# Altium integrated library Linear Technology PMIC-Switching Reg LTC1174-LTC3901.IntLib: 2647 symbols (part 138 of 310)
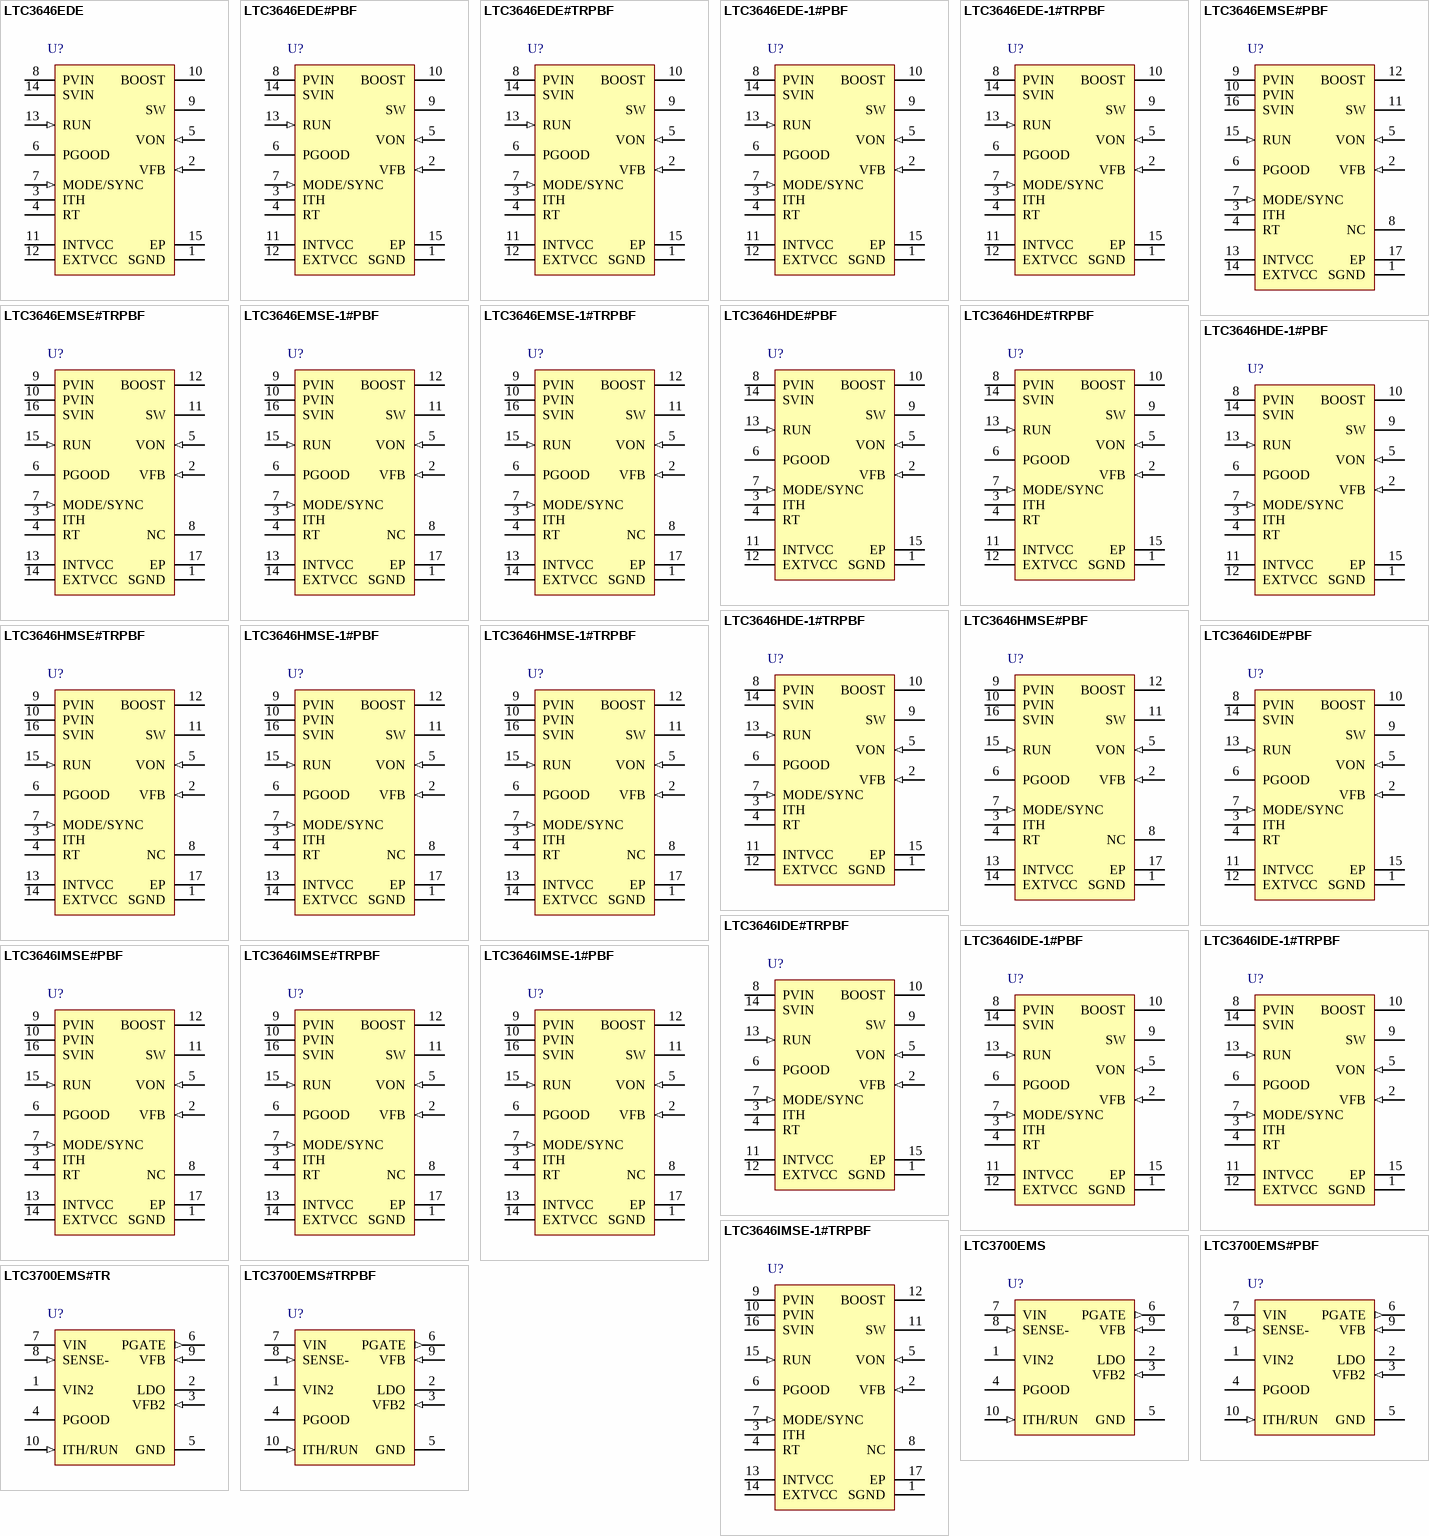
[diagram p194: symbols LTC3646EDE to LTC3700EMS#TRPBF]

## LTC3646HDE-1#TRPBF
designator U?
1 A Synchronous Step-Down Converter, 14-pin SON (DE-14), -40 to 150 degC, Pb-Free, Tape and Reel; Manufacturer: Linear Technology; PartNumber: LTC3646HDE-1#TRPBF; Number of Outputs: 1; PackageReference: DE-14; PackageDescription: 14-Pin Plastic DFN, Body 4 x 3 mm, Pitch 0.5 mm; Supplier 1: Digi-Key; Supplier Part Number 1: LTC3646HDE-1#TRPBF-ND; RoHS: TRUE; Code_JEDEC: MO-229
footprint LT-DE-14_V (SON, 14-Leads, Body 4x3mm, Pitch 0.5mm, Thermal Pad 3.3x1.7mm)
pins: 1 SGND (power) "Analog Ground Pin. This pin should have a low noise connection to the reference ground.", 2 VFB (in) "Output Voltage Feedback Pin. Input to the error amplifier that compares the feedback voltage with the internal 0.6 V reference. Connect this pin to a resistor divider network to program the desired output voltage.", 3 ITH "Error Amplifier Output and Switching Regulator Compensation Point. Connect this pin to appro-priate external components to compensate the regulator loop frequency response. Connect this pin to INTVCC to use the default (See Datasheet)", 4 RT "Oscillator Frequency Program Pin. Connect an external resistor between 450k and 30k from this pin to SGND to program the switching frequency from 200kHz to 3.0MHz. When RT is connected to INTVCC, the switching frequency will (See Datasheet)", 5 VON (in) "On-Time Voltage Input Pin. This pin provides information about the output voltage (VOUT) to the on-time control loop. Connect this pin to the regulated output to make the on-time proportional to the output voltage.", 6 PGOOD (hiz) "Power Good Output Pin. PGOOD is pulled to ground when the voltage at the VFB pin is not within 7.5% (typical) of the internal 0.6V reference. PGOOD becomes high impedance once the voltage at the VFB pin returns to within 5% (See Datasheet)", 7 MODE/SYNC (in) "Mode Selection and External Clock Input Pin. This pin forces the LTC3646 into forced continuous operation when tied to ground, and high efficiency Burst Mode operation when tied to INTVCC. When driven with an external clock, (See Datasheet)", 8 PVIN (power) "Supply Pin for the Power Switch. This pin connects directly to top switch. Closely decouple this pin to PGND with a 10uF or greater, low ESR capacitor.", 9 SW (power) "Switch Node Output Pin. Connect this pin to the switch side of the external inductor and boost capacitor.", 10 BOOST "Boosted Supply Pin. A boosted voltage is generated at this pin by connecting a capacitor between this pin and the SW pin. The normal operation voltage swing of this pin ranges from INTVCC to PVIN+ INTVCC. When necessary, (See Datasheet)", 11 INTVCC (power) "Internal 5.0V Regulator Output Pin. This pin should be decoupled to PGND with a 4.7uF or greater low ESR capacitor. When necessary, connect the anode of an external boost diode to this pin. The internal regulator is disabled (See Datasheet)", 12 EXTVCC (power) "Use this input pin to power the chip’s low voltage control circuitry if a high efficiency supply between 4.5V and 6.0V is available. Otherwise, connect this pin to SGND. See the Applications Information section for furthe(See Datasheet)", 13 RUN (in) "Regulator Enable Pin. Enables chip operation by applying a voltage greater than VRUN.", 14 SVIN (power) "Power Supply Input for Internal Circuitry. Closely decouple this pin to SGND with a greater than 1uF low ESR capacitor. SVIN pin voltage should equal PVIN in order to correctly calculate on the on time and maintain constant (See Datasheet)", 15 EP (power) "Power Path Ground Pin. The exposed pad must be well soldered to the PCB to provide a low impedance electrical connection to ground and rated thermal performance."

## LTC3646HMSE#PBF
designator U?
1 A Synchronous Step-Down Converter, 16-pin SOP (MSE-16-EDP), -40 to 150 degC, Pb-Free; Manufacturer: Linear Technology; PartNumber: LTC3646HMSE#PBF; Number of Outputs: 1; PackageReference: MSE-16; PackageDescription: 16-Pin Plastic MSOP, Exposed Die Pad, Body 4.039 x 3 mm, Pitch 0.5 mm; Supplier 1: Digi-Key; Supplier Part Number 1: LTC3646HMSE#PBF-ND; RoHS: TRUE
footprint LT-MSE-16-EDP_N (SOP, 16-Leads, Body 4.1x3.1mm, Pitch 0.5mm, Thermal Pad 2.95x1.76mm, IPC Medium Density)
footprint LT-MSE-16-EDP_L (SOP, 16-Leads, Body 4.1x3.1mm, Pitch 0.5mm, Thermal Pad 2.95x1.76mm, IPC High Density)
footprint LT-MSE-16-EDP_M (SOP, 16-Leads, Body 4.1x3.1mm, Pitch 0.5mm, Thermal Pad 2.95x1.76mm, IPC Low Density)
pins: 1 SGND (power) "Analog Ground Pin. This pin should have a low noise connection to the reference ground.", 2 VFB (in) "Output Voltage Feedback Pin. Input to the error amplifierthat compares the feedback voltage with the internal 0.6V reference. Connect this pin to a resistor divider network to program the desired output voltage.", 3 ITH "Error Amplifier Output and Switching Regulator Compensation Point. Connect this pin to appropriate external components to compensate the regulator loop frequency response. Connect this pin to INTVCC to  use the default (See Datasheet)", 4 RT "Oscillator Frequency Program Pin. Connect an external resistor between 450k and 30k from this pin to SGND to program the switching frequency from 200kHz to 3.0MHz. When RT is connected to INTVCC, the  switching frequency (See Datasheet)", 5 VON (in) "On-Time Voltage Input Pin. This pin provides information about the output voltage (VOUT) to the on-time control loop. Connect this pin to the regulated output to make the on-time proportional to the output voltage.", 6 PGOOD (hiz) "Power Good Output Pin. PGOOD is pulled to ground when the voltage at the VFB pin is not within 7.5% (typical) ofthe internal 0.6V reference. PGOOD becomes high impedance once the voltage at the VFB pin  returns to within 5% (See Datasheet)", 7 MODE/SYNC (in) "Mode Selection and External Clock Input Pin. This pin forces the LTC3646 into forced continuous operation when tied to ground, and high efficiency Burst Mode operation when tied to INTVCC. When driven with an external clock, (See Datasheet)", 8 NC "No Connection", 9 PVIN (power) "Supply Pin for the Power Switch.  This pin connects directly to top switch. Closely decouple  this pin to PGND with a 10uF or greater, low ESR capacitor.", 10 PVIN (power) "Supply Pin for the Power Switch.  This pin connects directly to top switch. Closely decouple  this pin to PGND with a 10uF or greater, low ESR capacitor.", 11 SW (power) "Switch Node Output Pin. Connect this pin to the switch side of the external inductor and boost  capacitor.", 12 BOOST "Boosted Supply Pin. A boosted voltage is generated at this pin by connecting a capacitor between this pin and the SW pin. The normal operation voltage  swing of this pin ranges from INTVCC to PVIN + INTVCC. When necessary, (See Datasheet)", 13 INTVCC (power) "Internal 5.0V Regulator Output Pin. This pin should be decoupled to PGND with a 4.7uF or greater low ESR capacitor. When necessary, connect the anode of an external boost diode to this pin. The internal regulator is disabled (See Datasheet)", 14 EXTVCC (power) "Use this input pin to power the chip’s low voltage control circuitry if a high efficiency supply between 4.5V and 6.0V is available. Otherwise, connect this pin to SGND. See the Applications Information section for furthe(See Datasheet)", 15 RUN (in) "Regulator Enable Pin. Enables chip operation by applying a voltage greater than VRUN.", 16 SVIN (power) "Power Supply Input for Internal Circuitry. Closely decouple this pin to SGND with a greater than 1uF low ESR capacitor. SVIN pin voltage should equal PVIN in order to correctly calculate on the on time and maintain constant (See Datasheet)", 17 EP (power) "Power Path Ground Pin. The exposed pad must be well soldered to the PCB to provide a low impedance electrical connection to ground and rated thermal performance."

## LTC3646HMSE#TRPBF
designator U?
1 A Synchronous Step-Down Converter, 16-pin SOP (MSE-16-EDP), -40 to 150 degC, Pb-Free, Tape and Reel; Manufacturer: Linear Technology; PartNumber: LTC3646HMSE#TRPBF; Number of Outputs: 1; PackageReference: MSE-16; PackageDescription: 16-Pin Plastic MSOP, Exposed Die Pad, Body 4.039 x 3 mm, Pitch 0.5 mm; Supplier 1: Digi-Key; Supplier Part Number 1: LTC3646HMSE#TRPBF-ND; RoHS: TRUE
footprint LT-MSE-16-EDP_N (SOP, 16-Leads, Body 4.1x3.1mm, Pitch 0.5mm, Thermal Pad 2.95x1.76mm, IPC Medium Density)
footprint LT-MSE-16-EDP_L (SOP, 16-Leads, Body 4.1x3.1mm, Pitch 0.5mm, Thermal Pad 2.95x1.76mm, IPC High Density)
footprint LT-MSE-16-EDP_M (SOP, 16-Leads, Body 4.1x3.1mm, Pitch 0.5mm, Thermal Pad 2.95x1.76mm, IPC Low Density)
pins: 1 SGND (power) "Analog Ground Pin. This pin should have a low noise connection to the reference ground.", 2 VFB (in) "Output Voltage Feedback Pin. Input to the error amplifierthat compares the feedback voltage with the internal 0.6V reference. Connect this pin to a resistor divider network to program the desired output voltage.", 3 ITH "Error Amplifier Output and Switching Regulator Compensation Point. Connect this pin to appropriate external components to compensate the regulator loop frequency response. Connect this pin to INTVCC to  use the default (See Datasheet)", 4 RT "Oscillator Frequency Program Pin. Connect an external resistor between 450k and 30k from this pin to SGND to program the switching frequency from 200kHz to 3.0MHz. When RT is connected to INTVCC, the  switching frequency (See Datasheet)", 5 VON (in) "On-Time Voltage Input Pin. This pin provides information about the output voltage (VOUT) to the on-time control loop. Connect this pin to the regulated output to make the on-time proportional to the output voltage.", 6 PGOOD (hiz) "Power Good Output Pin. PGOOD is pulled to ground when the voltage at the VFB pin is not within 7.5% (typical) ofthe internal 0.6V reference. PGOOD becomes high impedance once the voltage at the VFB pin  returns to within 5% (See Datasheet)", 7 MODE/SYNC (in) "Mode Selection and External Clock Input Pin. This pin forces the LTC3646 into forced continuous operation when tied to ground, and high efficiency Burst Mode operation when tied to INTVCC. When driven with an external clock, (See Datasheet)", 8 NC "No Connection", 9 PVIN (power) "Supply Pin for the Power Switch.  This pin connects directly to top switch. Closely decouple  this pin to PGND with a 10uF or greater, low ESR capacitor.", 10 PVIN (power) "Supply Pin for the Power Switch.  This pin connects directly to top switch. Closely decouple  this pin to PGND with a 10uF or greater, low ESR capacitor.", 11 SW (power) "Switch Node Output Pin. Connect this pin to the switch side of the external inductor and boost  capacitor.", 12 BOOST "Boosted Supply Pin. A boosted voltage is generated at this pin by connecting a capacitor between this pin and the SW pin. The normal operation voltage  swing of this pin ranges from INTVCC to PVIN + INTVCC. When necessary, (See Datasheet)", 13 INTVCC (power) "Internal 5.0V Regulator Output Pin. This pin should be decoupled to PGND with a 4.7uF or greater low ESR capacitor. When necessary, connect the anode of an external boost diode to this pin. The internal regulator is disabled (See Datasheet)", 14 EXTVCC (power) "Use this input pin to power the chip’s low voltage control circuitry if a high efficiency supply between 4.5V and 6.0V is available. Otherwise, connect this pin to SGND. See the Applications Information section for furthe(See Datasheet)", 15 RUN (in) "Regulator Enable Pin. Enables chip operation by applying a voltage greater than VRUN.", 16 SVIN (power) "Power Supply Input for Internal Circuitry. Closely decouple this pin to SGND with a greater than 1uF low ESR capacitor. SVIN pin voltage should equal PVIN in order to correctly calculate on the on time and maintain constant (See Datasheet)", 17 EP (power) "Power Path Ground Pin. The exposed pad must be well soldered to the PCB to provide a low impedance electrical connection to ground and rated thermal performance."

## LTC3646HMSE-1#PBF
designator U?
1 A Synchronous Step-Down Converter, 16-pin SOP (MSE-16-EDP), -40 to 150 degC, Pb-Free; Manufacturer: Linear Technology; PartNumber: LTC3646HMSE-1#PBF; Number of Outputs: 1; PackageReference: MSE-16; PackageDescription: 16-Pin Plastic MSOP, Exposed Die Pad, Body 4.039 x 3 mm, Pitch 0.5 mm; Supplier 1: Digi-Key; Supplier Part Number 1: LTC3646HMSE-1#PBF-ND; RoHS: TRUE
footprint LT-MSE-16-EDP_N (SOP, 16-Leads, Body 4.1x3.1mm, Pitch 0.5mm, Thermal Pad 2.95x1.76mm, IPC Medium Density)
footprint LT-MSE-16-EDP_L (SOP, 16-Leads, Body 4.1x3.1mm, Pitch 0.5mm, Thermal Pad 2.95x1.76mm, IPC High Density)
footprint LT-MSE-16-EDP_M (SOP, 16-Leads, Body 4.1x3.1mm, Pitch 0.5mm, Thermal Pad 2.95x1.76mm, IPC Low Density)
pins: 1 SGND (power) "Analog Ground Pin. This pin should have a low noise connection to the reference ground.", 2 VFB (in) "Output Voltage Feedback Pin. Input to the error amplifierthat compares the feedback voltage with the internal 0.6V reference. Connect this pin to a resistor divider network to program the desired output voltage.", 3 ITH "Error Amplifier Output and Switching Regulator Compensation Point. Connect this pin to appropriate external components to compensate the regulator loop frequency response. Connect this pin to INTVCC to  use the default (See Datasheet)", 4 RT "Oscillator Frequency Program Pin. Connect an external resistor between 450k and 30k from this pin to SGND to program the switching frequency from 200kHz to 3.0MHz. When RT is connected to INTVCC, the  switching frequency (See Datasheet)", 5 VON (in) "On-Time Voltage Input Pin. This pin provides information about the output voltage (VOUT) to the on-time control loop. Connect this pin to the regulated output to make the on-time proportional to the output voltage.", 6 PGOOD (hiz) "Power Good Output Pin. PGOOD is pulled to ground when the voltage at the VFB pin is not within 7.5% (typical) ofthe internal 0.6V reference. PGOOD becomes high impedance once the voltage at the VFB pin  returns to within 5% (See Datasheet)", 7 MODE/SYNC (in) "Mode Selection and External Clock Input Pin. This pin forces the LTC3646 into forced continuous operation when tied to ground, and high efficiency Burst Mode operation when tied to INTVCC. When driven with an external clock, (See Datasheet)", 8 NC "No Connection", 9 PVIN (power) "Supply Pin for the Power Switch.  This pin connects directly to top switch. Closely decouple  this pin to PGND with a 10uF or greater, low ESR capacitor.", 10 PVIN (power) "Supply Pin for the Power Switch.  This pin connects directly to top switch. Closely decouple  this pin to PGND with a 10uF or greater, low ESR capacitor.", 11 SW (power) "Switch Node Output Pin. Connect this pin to the switch side of the external inductor and boost  capacitor.", 12 BOOST "Boosted Supply Pin. A boosted voltage is generated at this pin by connecting a capacitor between this pin and the SW pin. The normal operation voltage  swing of this pin ranges from INTVCC to PVIN + INTVCC. When necessary, (See Datasheet)", 13 INTVCC (power) "Internal 5.0V Regulator Output Pin. This pin should be decoupled to PGND with a 4.7uF or greater low ESR capacitor. When necessary, connect the anode of an external boost diode to this pin. The internal regulator is disabled (See Datasheet)", 14 EXTVCC (power) "Use this input pin to power the chip’s low voltage control circuitry if a high efficiency supply between 4.5V and 6.0V is available. Otherwise, connect this pin to SGND. See the Applications Information section for furthe(See Datasheet)", 15 RUN (in) "Regulator Enable Pin. Enables chip operation by applying a voltage greater than VRUN.", 16 SVIN (power) "Power Supply Input for Internal Circuitry. Closely decouple this pin to SGND with a greater than 1uF low ESR capacitor. SVIN pin voltage should equal PVIN in order to correctly calculate on the on time and maintain constant (See Datasheet)", 17 EP (power) "Power Path Ground Pin. The exposed pad must be well soldered to the PCB to provide a low impedance electrical connection to ground and rated thermal performance."

## LTC3646HMSE-1#TRPBF
designator U?
1 A Synchronous Step-Down Converter, 16-pin SOP (MSE-16-EDP), -40 to 150 degC, Pb-Free, Tape and Reel; Manufacturer: Linear Technology; PartNumber: LTC3646HMSE-1#TRPBF; Number of Outputs: 1; PackageReference: MSE-16; PackageDescription: 16-Pin Plastic MSOP, Exposed Die Pad, Body 4.039 x 3 mm, Pitch 0.5 mm; Supplier 1: Digi-Key; Supplier Part Number 1: LTC3646HMSE-1#TRPBF-ND; RoHS: TRUE
footprint LT-MSE-16-EDP_N (SOP, 16-Leads, Body 4.1x3.1mm, Pitch 0.5mm, Thermal Pad 2.95x1.76mm, IPC Medium Density)
footprint LT-MSE-16-EDP_L (SOP, 16-Leads, Body 4.1x3.1mm, Pitch 0.5mm, Thermal Pad 2.95x1.76mm, IPC High Density)
footprint LT-MSE-16-EDP_M (SOP, 16-Leads, Body 4.1x3.1mm, Pitch 0.5mm, Thermal Pad 2.95x1.76mm, IPC Low Density)
pins: 1 SGND (power) "Analog Ground Pin. This pin should have a low noise connection to the reference ground.", 2 VFB (in) "Output Voltage Feedback Pin. Input to the error amplifierthat compares the feedback voltage with the internal 0.6V reference. Connect this pin to a resistor divider network to program the desired output voltage.", 3 ITH "Error Amplifier Output and Switching Regulator Compensation Point. Connect this pin to appropriate external components to compensate the regulator loop frequency response. Connect this pin to INTVCC to  use the default (See Datasheet)", 4 RT "Oscillator Frequency Program Pin. Connect an external resistor between 450k and 30k from this pin to SGND to program the switching frequency from 200kHz to 3.0MHz. When RT is connected to INTVCC, the  switching frequency (See Datasheet)", 5 VON (in) "On-Time Voltage Input Pin. This pin provides information about the output voltage (VOUT) to the on-time control loop. Connect this pin to the regulated output to make the on-time proportional to the output voltage.", 6 PGOOD (hiz) "Power Good Output Pin. PGOOD is pulled to ground when the voltage at the VFB pin is not within 7.5% (typical) ofthe internal 0.6V reference. PGOOD becomes high impedance once the voltage at the VFB pin  returns to within 5% (See Datasheet)", 7 MODE/SYNC (in) "Mode Selection and External Clock Input Pin. This pin forces the LTC3646 into forced continuous operation when tied to ground, and high efficiency Burst Mode operation when tied to INTVCC. When driven with an external clock, (See Datasheet)", 8 NC "No Connection", 9 PVIN (power) "Supply Pin for the Power Switch.  This pin connects directly to top switch. Closely decouple  this pin to PGND with a 10uF or greater, low ESR capacitor.", 10 PVIN (power) "Supply Pin for the Power Switch.  This pin connects directly to top switch. Closely decouple  this pin to PGND with a 10uF or greater, low ESR capacitor.", 11 SW (power) "Switch Node Output Pin. Connect this pin to the switch side of the external inductor and boost  capacitor.", 12 BOOST "Boosted Supply Pin. A boosted voltage is generated at this pin by connecting a capacitor between this pin and the SW pin. The normal operation voltage  swing of this pin ranges from INTVCC to PVIN + INTVCC. When necessary, (See Datasheet)", 13 INTVCC (power) "Internal 5.0V Regulator Output Pin. This pin should be decoupled to PGND with a 4.7uF or greater low ESR capacitor. When necessary, connect the anode of an external boost diode to this pin. The internal regulator is disabled (See Datasheet)", 14 EXTVCC (power) "Use this input pin to power the chip’s low voltage control circuitry if a high efficiency supply between 4.5V and 6.0V is available. Otherwise, connect this pin to SGND. See the Applications Information section for furthe(See Datasheet)", 15 RUN (in) "Regulator Enable Pin. Enables chip operation by applying a voltage greater than VRUN.", 16 SVIN (power) "Power Supply Input for Internal Circuitry. Closely decouple this pin to SGND with a greater than 1uF low ESR capacitor. SVIN pin voltage should equal PVIN in order to correctly calculate on the on time and maintain constant (See Datasheet)", 17 EP (power) "Power Path Ground Pin. The exposed pad must be well soldered to the PCB to provide a low impedance electrical connection to ground and rated thermal performance."

## LTC3646IDE#PBF
designator U?
1 A Synchronous Step-Down Converter, 14-pin SON (DE-14), -40 to 125 degC, Pb-Free; Manufacturer: Linear Technology; PartNumber: LTC3646IDE#PBF; Number of Outputs: 1; PackageReference: DE-14; PackageDescription: 14-Pin Plastic DFN, Body 4 x 3 mm, Pitch 0.5 mm; Supplier 1: Digi-Key; Supplier Part Number 1: LTC3646IDE#PBF-ND; RoHS: TRUE; Code_JEDEC: MO-229
footprint LT-DE-14_V (SON, 14-Leads, Body 4x3mm, Pitch 0.5mm, Thermal Pad 3.3x1.7mm)
pins: 1 SGND (power) "Analog Ground Pin. This pin should have a low noise connection to the reference ground.", 2 VFB (in) "Output Voltage Feedback Pin. Input to the error amplifier that compares the feedback voltage with the internal 0.6 V reference. Connect this pin to a resistor divider network to program the desired output voltage.", 3 ITH "Error Amplifier Output and Switching Regulator Compensation Point. Connect this pin to appro-priate external components to compensate the regulator loop frequency response. Connect this pin to INTVCC to use the default (See Datasheet)", 4 RT "Oscillator Frequency Program Pin. Connect an external resistor between 450k and 30k from this pin to SGND to program the switching frequency from 200kHz to 3.0MHz. When RT is connected to INTVCC, the switching frequency will (See Datasheet)", 5 VON (in) "On-Time Voltage Input Pin. This pin provides information about the output voltage (VOUT) to the on-time control loop. Connect this pin to the regulated output to make the on-time proportional to the output voltage.", 6 PGOOD (hiz) "Power Good Output Pin. PGOOD is pulled to ground when the voltage at the VFB pin is not within 7.5% (typical) of the internal 0.6V reference. PGOOD becomes high impedance once the voltage at the VFB pin returns to within 5% (See Datasheet)", 7 MODE/SYNC (in) "Mode Selection and External Clock Input Pin. This pin forces the LTC3646 into forced continuous operation when tied to ground, and high efficiency Burst Mode operation when tied to INTVCC. When driven with an external clock, (See Datasheet)", 8 PVIN (power) "Supply Pin for the Power Switch. This pin connects directly to top switch. Closely decouple this pin to PGND with a 10uF or greater, low ESR capacitor.", 9 SW (power) "Switch Node Output Pin. Connect this pin to the switch side of the external inductor and boost capacitor.", 10 BOOST "Boosted Supply Pin. A boosted voltage is generated at this pin by connecting a capacitor between this pin and the SW pin. The normal operation voltage swing of this pin ranges from INTVCC to PVIN+ INTVCC. When necessary, (See Datasheet)", 11 INTVCC (power) "Internal 5.0V Regulator Output Pin. This pin should be decoupled to PGND with a 4.7uF or greater low ESR capacitor. When necessary, connect the anode of an external boost diode to this pin. The internal regulator is disabled (See Datasheet)", 12 EXTVCC (power) "Use this input pin to power the chip’s low voltage control circuitry if a high efficiency supply between 4.5V and 6.0V is available. Otherwise, connect this pin to SGND. See the Applications Information section for furthe(See Datasheet)", 13 RUN (in) "Regulator Enable Pin. Enables chip operation by applying a voltage greater than VRUN.", 14 SVIN (power) "Power Supply Input for Internal Circuitry. Closely decouple this pin to SGND with a greater than 1uF low ESR capacitor. SVIN pin voltage should equal PVIN in order to correctly calculate on the on time and maintain constant (See Datasheet)", 15 EP (power) "Power Path Ground Pin. The exposed pad must be well soldered to the PCB to provide a low impedance electrical connection to ground and rated thermal performance."

## LTC3646IDE#TRPBF
designator U?
1 A Synchronous Step-Down Converter, 14-pin SON (DE-14), -40 to 125 degC, Pb-Free, Tape and Reel; Manufacturer: Linear Technology; PartNumber: LTC3646IDE#TRPBF; Number of Outputs: 1; PackageReference: DE-14; PackageDescription: 14-Pin Plastic DFN, Body 4 x 3 mm, Pitch 0.5 mm; Supplier 1: Digi-Key; Supplier Part Number 1: LTC3646IDE#TRPBF-ND; RoHS: TRUE; Code_JEDEC: MO-229
footprint LT-DE-14_V (SON, 14-Leads, Body 4x3mm, Pitch 0.5mm, Thermal Pad 3.3x1.7mm)
pins: 1 SGND (power) "Analog Ground Pin. This pin should have a low noise connection to the reference ground.", 2 VFB (in) "Output Voltage Feedback Pin. Input to the error amplifier that compares the feedback voltage with the internal 0.6 V reference. Connect this pin to a resistor divider network to program the desired output voltage.", 3 ITH "Error Amplifier Output and Switching Regulator Compensation Point. Connect this pin to appro-priate external components to compensate the regulator loop frequency response. Connect this pin to INTVCC to use the default (See Datasheet)", 4 RT "Oscillator Frequency Program Pin. Connect an external resistor between 450k and 30k from this pin to SGND to program the switching frequency from 200kHz to 3.0MHz. When RT is connected to INTVCC, the switching frequency will (See Datasheet)", 5 VON (in) "On-Time Voltage Input Pin. This pin provides information about the output voltage (VOUT) to the on-time control loop. Connect this pin to the regulated output to make the on-time proportional to the output voltage.", 6 PGOOD (hiz) "Power Good Output Pin. PGOOD is pulled to ground when the voltage at the VFB pin is not within 7.5% (typical) of the internal 0.6V reference. PGOOD becomes high impedance once the voltage at the VFB pin returns to within 5% (See Datasheet)", 7 MODE/SYNC (in) "Mode Selection and External Clock Input Pin. This pin forces the LTC3646 into forced continuous operation when tied to ground, and high efficiency Burst Mode operation when tied to INTVCC. When driven with an external clock, (See Datasheet)", 8 PVIN (power) "Supply Pin for the Power Switch. This pin connects directly to top switch. Closely decouple this pin to PGND with a 10uF or greater, low ESR capacitor.", 9 SW (power) "Switch Node Output Pin. Connect this pin to the switch side of the external inductor and boost capacitor.", 10 BOOST "Boosted Supply Pin. A boosted voltage is generated at this pin by connecting a capacitor between this pin and the SW pin. The normal operation voltage swing of this pin ranges from INTVCC to PVIN+ INTVCC. When necessary, (See Datasheet)", 11 INTVCC (power) "Internal 5.0V Regulator Output Pin. This pin should be decoupled to PGND with a 4.7uF or greater low ESR capacitor. When necessary, connect the anode of an external boost diode to this pin. The internal regulator is disabled (See Datasheet)", 12 EXTVCC (power) "Use this input pin to power the chip’s low voltage control circuitry if a high efficiency supply between 4.5V and 6.0V is available. Otherwise, connect this pin to SGND. See the Applications Information section for furthe(See Datasheet)", 13 RUN (in) "Regulator Enable Pin. Enables chip operation by applying a voltage greater than VRUN.", 14 SVIN (power) "Power Supply Input for Internal Circuitry. Closely decouple this pin to SGND with a greater than 1uF low ESR capacitor. SVIN pin voltage should equal PVIN in order to correctly calculate on the on time and maintain constant (See Datasheet)", 15 EP (power) "Power Path Ground Pin. The exposed pad must be well soldered to the PCB to provide a low impedance electrical connection to ground and rated thermal performance."

## LTC3646IDE-1#PBF
designator U?
1 A Synchronous Step-Down Converter, 14-pin SON (DE-14), -40 to 125 degC, Pb-Free; Manufacturer: Linear Technology; PartNumber: LTC3646IDE-1#PBF; Number of Outputs: 1; PackageReference: DE-14; PackageDescription: 14-Pin Plastic DFN, Body 4 x 3 mm, Pitch 0.5 mm; Supplier 1: Digi-Key; Supplier Part Number 1: LTC3646IDE-1#PBF-ND; RoHS: TRUE; Code_JEDEC: MO-229
footprint LT-DE-14_V (SON, 14-Leads, Body 4x3mm, Pitch 0.5mm, Thermal Pad 3.3x1.7mm)
pins: 1 SGND (power) "Analog Ground Pin. This pin should have a low noise connection to the reference ground.", 2 VFB (in) "Output Voltage Feedback Pin. Input to the error amplifier that compares the feedback voltage with the internal 0.6 V reference. Connect this pin to a resistor divider network to program the desired output voltage.", 3 ITH "Error Amplifier Output and Switching Regulator Compensation Point. Connect this pin to appro-priate external components to compensate the regulator loop frequency response. Connect this pin to INTVCC to use the default (See Datasheet)", 4 RT "Oscillator Frequency Program Pin. Connect an external resistor between 450k and 30k from this pin to SGND to program the switching frequency from 200kHz to 3.0MHz. When RT is connected to INTVCC, the switching frequency will (See Datasheet)", 5 VON (in) "On-Time Voltage Input Pin. This pin provides information about the output voltage (VOUT) to the on-time control loop. Connect this pin to the regulated output to make the on-time proportional to the output voltage.", 6 PGOOD (hiz) "Power Good Output Pin. PGOOD is pulled to ground when the voltage at the VFB pin is not within 7.5% (typical) of the internal 0.6V reference. PGOOD becomes high impedance once the voltage at the VFB pin returns to within 5% (See Datasheet)", 7 MODE/SYNC (in) "Mode Selection and External Clock Input Pin. This pin forces the LTC3646 into forced continuous operation when tied to ground, and high efficiency Burst Mode operation when tied to INTVCC. When driven with an external clock, (See Datasheet)", 8 PVIN (power) "Supply Pin for the Power Switch. This pin connects directly to top switch. Closely decouple this pin to PGND with a 10uF or greater, low ESR capacitor.", 9 SW (power) "Switch Node Output Pin. Connect this pin to the switch side of the external inductor and boost capacitor.", 10 BOOST "Boosted Supply Pin. A boosted voltage is generated at this pin by connecting a capacitor between this pin and the SW pin. The normal operation voltage swing of this pin ranges from INTVCC to PVIN+ INTVCC. When necessary, (See Datasheet)", 11 INTVCC (power) "Internal 5.0V Regulator Output Pin. This pin should be decoupled to PGND with a 4.7uF or greater low ESR capacitor. When necessary, connect the anode of an external boost diode to this pin. The internal regulator is disabled (See Datasheet)", 12 EXTVCC (power) "Use this input pin to power the chip’s low voltage control circuitry if a high efficiency supply between 4.5V and 6.0V is available. Otherwise, connect this pin to SGND. See the Applications Information section for furthe(See Datasheet)", 13 RUN (in) "Regulator Enable Pin. Enables chip operation by applying a voltage greater than VRUN.", 14 SVIN (power) "Power Supply Input for Internal Circuitry. Closely decouple this pin to SGND with a greater than 1uF low ESR capacitor. SVIN pin voltage should equal PVIN in order to correctly calculate on the on time and maintain constant (See Datasheet)", 15 EP (power) "Power Path Ground Pin. The exposed pad must be well soldered to the PCB to provide a low impedance electrical connection to ground and rated thermal performance."

## LTC3646IDE-1#TRPBF
designator U?
1 A Synchronous Step-Down Converter, 14-pin SON (DE-14), -40 to 125 degC, Pb-Free, Tape and Reel; Manufacturer: Linear Technology; PartNumber: LTC3646IDE-1#TRPBF; Number of Outputs: 1; PackageReference: DE-14; PackageDescription: 14-Pin Plastic DFN, Body 4 x 3 mm, Pitch 0.5 mm; Supplier 1: Digi-Key; Supplier Part Number 1: LTC3646IDE-1#TRPBF-ND; RoHS: TRUE; Code_JEDEC: MO-229
footprint LT-DE-14_V (SON, 14-Leads, Body 4x3mm, Pitch 0.5mm, Thermal Pad 3.3x1.7mm)
pins: 1 SGND (power) "Analog Ground Pin. This pin should have a low noise connection to the reference ground.", 2 VFB (in) "Output Voltage Feedback Pin. Input to the error amplifier that compares the feedback voltage with the internal 0.6 V reference. Connect this pin to a resistor divider network to program the desired output voltage.", 3 ITH "Error Amplifier Output and Switching Regulator Compensation Point. Connect this pin to appro-priate external components to compensate the regulator loop frequency response. Connect this pin to INTVCC to use the default (See Datasheet)", 4 RT "Oscillator Frequency Program Pin. Connect an external resistor between 450k and 30k from this pin to SGND to program the switching frequency from 200kHz to 3.0MHz. When RT is connected to INTVCC, the switching frequency will (See Datasheet)", 5 VON (in) "On-Time Voltage Input Pin. This pin provides information about the output voltage (VOUT) to the on-time control loop. Connect this pin to the regulated output to make the on-time proportional to the output voltage.", 6 PGOOD (hiz) "Power Good Output Pin. PGOOD is pulled to ground when the voltage at the VFB pin is not within 7.5% (typical) of the internal 0.6V reference. PGOOD becomes high impedance once the voltage at the VFB pin returns to within 5% (See Datasheet)", 7 MODE/SYNC (in) "Mode Selection and External Clock Input Pin. This pin forces the LTC3646 into forced continuous operation when tied to ground, and high efficiency Burst Mode operation when tied to INTVCC. When driven with an external clock, (See Datasheet)", 8 PVIN (power) "Supply Pin for the Power Switch. This pin connects directly to top switch. Closely decouple this pin to PGND with a 10uF or greater, low ESR capacitor.", 9 SW (power) "Switch Node Output Pin. Connect this pin to the switch side of the external inductor and boost capacitor.", 10 BOOST "Boosted Supply Pin. A boosted voltage is generated at this pin by connecting a capacitor between this pin and the SW pin. The normal operation voltage swing of this pin ranges from INTVCC to PVIN+ INTVCC. When necessary, (See Datasheet)", 11 INTVCC (power) "Internal 5.0V Regulator Output Pin. This pin should be decoupled to PGND with a 4.7uF or greater low ESR capacitor. When necessary, connect the anode of an external boost diode to this pin. The internal regulator is disabled (See Datasheet)", 12 EXTVCC (power) "Use this input pin to power the chip’s low voltage control circuitry if a high efficiency supply between 4.5V and 6.0V is available. Otherwise, connect this pin to SGND. See the Applications Information section for furthe(See Datasheet)", 13 RUN (in) "Regulator Enable Pin. Enables chip operation by applying a voltage greater than VRUN.", 14 SVIN (power) "Power Supply Input for Internal Circuitry. Closely decouple this pin to SGND with a greater than 1uF low ESR capacitor. SVIN pin voltage should equal PVIN in order to correctly calculate on the on time and maintain constant (See Datasheet)", 15 EP (power) "Power Path Ground Pin. The exposed pad must be well soldered to the PCB to provide a low impedance electrical connection to ground and rated thermal performance."

## LTC3646IMSE#PBF
designator U?
1 A Synchronous Step-Down Converter, 16-pin SOP (MSE-16-EDP), -40 to 125 degC, Pb-Free; Manufacturer: Linear Technology; PartNumber: LTC3646IMSE#PBF; Number of Outputs: 1; PackageReference: MSE-16; PackageDescription: 16-Pin Plastic MSOP, Exposed Die Pad, Body 4.039 x 3 mm, Pitch 0.5 mm; Supplier 1: Digi-Key; Supplier Part Number 1: LTC3646IMSE#PBF-ND; RoHS: TRUE
footprint LT-MSE-16-EDP_N (SOP, 16-Leads, Body 4.1x3.1mm, Pitch 0.5mm, Thermal Pad 2.95x1.76mm, IPC Medium Density)
footprint LT-MSE-16-EDP_L (SOP, 16-Leads, Body 4.1x3.1mm, Pitch 0.5mm, Thermal Pad 2.95x1.76mm, IPC High Density)
footprint LT-MSE-16-EDP_M (SOP, 16-Leads, Body 4.1x3.1mm, Pitch 0.5mm, Thermal Pad 2.95x1.76mm, IPC Low Density)
pins: 1 SGND (power) "Analog Ground Pin. This pin should have a low noise connection to the reference ground.", 2 VFB (in) "Output Voltage Feedback Pin. Input to the error amplifierthat compares the feedback voltage with the internal 0.6V reference. Connect this pin to a resistor divider network to program the desired output voltage.", 3 ITH "Error Amplifier Output and Switching Regulator Compensation Point. Connect this pin to appropriate external components to compensate the regulator loop frequency response. Connect this pin to INTVCC to  use the default (See Datasheet)", 4 RT "Oscillator Frequency Program Pin. Connect an external resistor between 450k and 30k from this pin to SGND to program the switching frequency from 200kHz to 3.0MHz. When RT is connected to INTVCC, the  switching frequency (See Datasheet)", 5 VON (in) "On-Time Voltage Input Pin. This pin provides information about the output voltage (VOUT) to the on-time control loop. Connect this pin to the regulated output to make the on-time proportional to the output voltage.", 6 PGOOD (hiz) "Power Good Output Pin. PGOOD is pulled to ground when the voltage at the VFB pin is not within 7.5% (typical) ofthe internal 0.6V reference. PGOOD becomes high impedance once the voltage at the VFB pin  returns to within 5% (See Datasheet)", 7 MODE/SYNC (in) "Mode Selection and External Clock Input Pin. This pin forces the LTC3646 into forced continuous operation when tied to ground, and high efficiency Burst Mode operation when tied to INTVCC. When driven with an external clock, (See Datasheet)", 8 NC "No Connection", 9 PVIN (power) "Supply Pin for the Power Switch.  This pin connects directly to top switch. Closely decouple  this pin to PGND with a 10uF or greater, low ESR capacitor.", 10 PVIN (power) "Supply Pin for the Power Switch.  This pin connects directly to top switch. Closely decouple  this pin to PGND with a 10uF or greater, low ESR capacitor.", 11 SW (power) "Switch Node Output Pin. Connect this pin to the switch side of the external inductor and boost  capacitor.", 12 BOOST "Boosted Supply Pin. A boosted voltage is generated at this pin by connecting a capacitor between this pin and the SW pin. The normal operation voltage  swing of this pin ranges from INTVCC to PVIN + INTVCC. When necessary, (See Datasheet)", 13 INTVCC (power) "Internal 5.0V Regulator Output Pin. This pin should be decoupled to PGND with a 4.7uF or greater low ESR capacitor. When necessary, connect the anode of an external boost diode to this pin. The internal regulator is disabled (See Datasheet)", 14 EXTVCC (power) "Use this input pin to power the chip’s low voltage control circuitry if a high efficiency supply between 4.5V and 6.0V is available. Otherwise, connect this pin to SGND. See the Applications Information section for furthe(See Datasheet)", 15 RUN (in) "Regulator Enable Pin. Enables chip operation by applying a voltage greater than VRUN.", 16 SVIN (power) "Power Supply Input for Internal Circuitry. Closely decouple this pin to SGND with a greater than 1uF low ESR capacitor. SVIN pin voltage should equal PVIN in order to correctly calculate on the on time and maintain constant (See Datasheet)", 17 EP (power) "Power Path Ground Pin. The exposed pad must be well soldered to the PCB to provide a low impedance electrical connection to ground and rated thermal performance."

## LTC3646IMSE#TRPBF
designator U?
1 A Synchronous Step-Down Converter, 16-pin SOP (MSE-16-EDP), -40 to 125 degC, Pb-Free, Tape and Reel; Manufacturer: Linear Technology; PartNumber: LTC3646IMSE#TRPBF; Number of Outputs: 1; PackageReference: MSE-16; PackageDescription: 16-Pin Plastic MSOP, Exposed Die Pad, Body 4.039 x 3 mm, Pitch 0.5 mm; Supplier 1: Digi-Key; Supplier Part Number 1: LTC3646IMSE#TRPBF-ND; RoHS: TRUE
footprint LT-MSE-16-EDP_N (SOP, 16-Leads, Body 4.1x3.1mm, Pitch 0.5mm, Thermal Pad 2.95x1.76mm, IPC Medium Density)
footprint LT-MSE-16-EDP_L (SOP, 16-Leads, Body 4.1x3.1mm, Pitch 0.5mm, Thermal Pad 2.95x1.76mm, IPC High Density)
footprint LT-MSE-16-EDP_M (SOP, 16-Leads, Body 4.1x3.1mm, Pitch 0.5mm, Thermal Pad 2.95x1.76mm, IPC Low Density)
pins: 1 SGND (power) "Analog Ground Pin. This pin should have a low noise connection to the reference ground.", 2 VFB (in) "Output Voltage Feedback Pin. Input to the error amplifierthat compares the feedback voltage with the internal 0.6V reference. Connect this pin to a resistor divider network to program the desired output voltage.", 3 ITH "Error Amplifier Output and Switching Regulator Compensation Point. Connect this pin to appropriate external components to compensate the regulator loop frequency response. Connect this pin to INTVCC to  use the default (See Datasheet)", 4 RT "Oscillator Frequency Program Pin. Connect an external resistor between 450k and 30k from this pin to SGND to program the switching frequency from 200kHz to 3.0MHz. When RT is connected to INTVCC, the  switching frequency (See Datasheet)", 5 VON (in) "On-Time Voltage Input Pin. This pin provides information about the output voltage (VOUT) to the on-time control loop. Connect this pin to the regulated output to make the on-time proportional to the output voltage.", 6 PGOOD (hiz) "Power Good Output Pin. PGOOD is pulled to ground when the voltage at the VFB pin is not within 7.5% (typical) ofthe internal 0.6V reference. PGOOD becomes high impedance once the voltage at the VFB pin  returns to within 5% (See Datasheet)", 7 MODE/SYNC (in) "Mode Selection and External Clock Input Pin. This pin forces the LTC3646 into forced continuous operation when tied to ground, and high efficiency Burst Mode operation when tied to INTVCC. When driven with an external clock, (See Datasheet)", 8 NC "No Connection", 9 PVIN (power) "Supply Pin for the Power Switch.  This pin connects directly to top switch. Closely decouple  this pin to PGND with a 10uF or greater, low ESR capacitor.", 10 PVIN (power) "Supply Pin for the Power Switch.  This pin connects directly to top switch. Closely decouple  this pin to PGND with a 10uF or greater, low ESR capacitor.", 11 SW (power) "Switch Node Output Pin. Connect this pin to the switch side of the external inductor and boost  capacitor.", 12 BOOST "Boosted Supply Pin. A boosted voltage is generated at this pin by connecting a capacitor between this pin and the SW pin. The normal operation voltage  swing of this pin ranges from INTVCC to PVIN + INTVCC. When necessary, (See Datasheet)", 13 INTVCC (power) "Internal 5.0V Regulator Output Pin. This pin should be decoupled to PGND with a 4.7uF or greater low ESR capacitor. When necessary, connect the anode of an external boost diode to this pin. The internal regulator is disabled (See Datasheet)", 14 EXTVCC (power) "Use this input pin to power the chip’s low voltage control circuitry if a high efficiency supply between 4.5V and 6.0V is available. Otherwise, connect this pin to SGND. See the Applications Information section for furthe(See Datasheet)", 15 RUN (in) "Regulator Enable Pin. Enables chip operation by applying a voltage greater than VRUN.", 16 SVIN (power) "Power Supply Input for Internal Circuitry. Closely decouple this pin to SGND with a greater than 1uF low ESR capacitor. SVIN pin voltage should equal PVIN in order to correctly calculate on the on time and maintain constant (See Datasheet)", 17 EP (power) "Power Path Ground Pin. The exposed pad must be well soldered to the PCB to provide a low impedance electrical connection to ground and rated thermal performance."

## LTC3646IMSE-1#PBF
designator U?
1 A Synchronous Step-Down Converter, 16-pin SOP (MSE-16-EDP), -40 to 125 degC, Pb-Free; Manufacturer: Linear Technology; PartNumber: LTC3646IMSE-1#PBF; Number of Outputs: 1; PackageReference: MSE-16; PackageDescription: 16-Pin Plastic MSOP, Exposed Die Pad, Body 4.039 x 3 mm, Pitch 0.5 mm; Supplier 1: Digi-Key; Supplier Part Number 1: LTC3646IMSE-1#PBF-ND; RoHS: TRUE
footprint LT-MSE-16-EDP_N (SOP, 16-Leads, Body 4.1x3.1mm, Pitch 0.5mm, Thermal Pad 2.95x1.76mm, IPC Medium Density)
footprint LT-MSE-16-EDP_L (SOP, 16-Leads, Body 4.1x3.1mm, Pitch 0.5mm, Thermal Pad 2.95x1.76mm, IPC High Density)
footprint LT-MSE-16-EDP_M (SOP, 16-Leads, Body 4.1x3.1mm, Pitch 0.5mm, Thermal Pad 2.95x1.76mm, IPC Low Density)
pins: 1 SGND (power) "Analog Ground Pin. This pin should have a low noise connection to the reference ground.", 2 VFB (in) "Output Voltage Feedback Pin. Input to the error amplifierthat compares the feedback voltage with the internal 0.6V reference. Connect this pin to a resistor divider network to program the desired output voltage.", 3 ITH "Error Amplifier Output and Switching Regulator Compensation Point. Connect this pin to appropriate external components to compensate the regulator loop frequency response. Connect this pin to INTVCC to  use the default (See Datasheet)", 4 RT "Oscillator Frequency Program Pin. Connect an external resistor between 450k and 30k from this pin to SGND to program the switching frequency from 200kHz to 3.0MHz. When RT is connected to INTVCC, the  switching frequency (See Datasheet)", 5 VON (in) "On-Time Voltage Input Pin. This pin provides information about the output voltage (VOUT) to the on-time control loop. Connect this pin to the regulated output to make the on-time proportional to the output voltage.", 6 PGOOD (hiz) "Power Good Output Pin. PGOOD is pulled to ground when the voltage at the VFB pin is not within 7.5% (typical) ofthe internal 0.6V reference. PGOOD becomes high impedance once the voltage at the VFB pin  returns to within 5% (See Datasheet)", 7 MODE/SYNC (in) "Mode Selection and External Clock Input Pin. This pin forces the LTC3646 into forced continuous operation when tied to ground, and high efficiency Burst Mode operation when tied to INTVCC. When driven with an external clock, (See Datasheet)", 8 NC "No Connection", 9 PVIN (power) "Supply Pin for the Power Switch.  This pin connects directly to top switch. Closely decouple  this pin to PGND with a 10uF or greater, low ESR capacitor.", 10 PVIN (power) "Supply Pin for the Power Switch.  This pin connects directly to top switch. Closely decouple  this pin to PGND with a 10uF or greater, low ESR capacitor.", 11 SW (power) "Switch Node Output Pin. Connect this pin to the switch side of the external inductor and boost  capacitor.", 12 BOOST "Boosted Supply Pin. A boosted voltage is generated at this pin by connecting a capacitor between this pin and the SW pin. The normal operation voltage  swing of this pin ranges from INTVCC to PVIN + INTVCC. When necessary, (See Datasheet)", 13 INTVCC (power) "Internal 5.0V Regulator Output Pin. This pin should be decoupled to PGND with a 4.7uF or greater low ESR capacitor. When necessary, connect the anode of an external boost diode to this pin. The internal regulator is disabled (See Datasheet)", 14 EXTVCC (power) "Use this input pin to power the chip’s low voltage control circuitry if a high efficiency supply between 4.5V and 6.0V is available. Otherwise, connect this pin to SGND. See the Applications Information section for furthe(See Datasheet)", 15 RUN (in) "Regulator Enable Pin. Enables chip operation by applying a voltage greater than VRUN.", 16 SVIN (power) "Power Supply Input for Internal Circuitry. Closely decouple this pin to SGND with a greater than 1uF low ESR capacitor. SVIN pin voltage should equal PVIN in order to correctly calculate on the on time and maintain constant (See Datasheet)", 17 EP (power) "Power Path Ground Pin. The exposed pad must be well soldered to the PCB to provide a low impedance electrical connection to ground and rated thermal performance."